# Altium integrated library Xilinx Spartan-IIE.IntLib: 136 symbols (part 22 of 25)
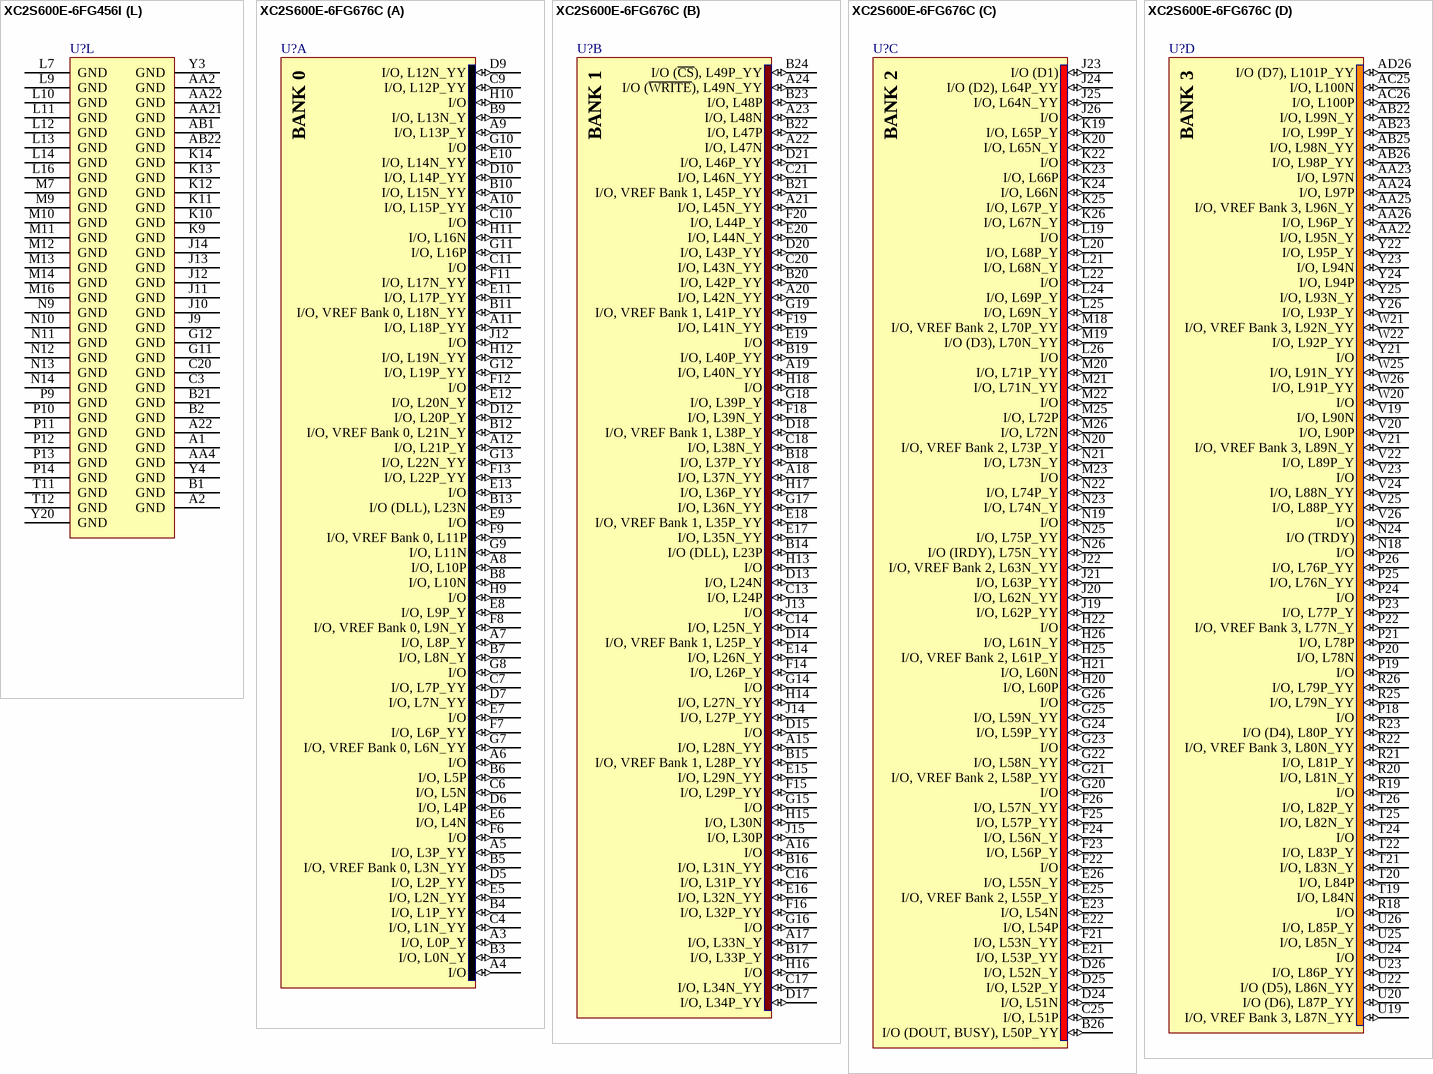
[diagram p149: symbols XC2S600E-6FG456I to XC2S600E-6FG676C]

## XC2S600E-6FG456I
designator U?
Spartan-IIE 1.8V FPGA, 329 User I/Os, 456-Ball FBGA, Standard Performance, Industrial Grade; Published: 17-Jan-2003; LatestRevisionDate: 16-Nov-2009; LatestRevisionNote: Updated to datasheet version 2.3 Jun-2008.; DatasheetVersion: ver2.3, Jun-2008; PackageVersion: ver1.2.1, Mar-2005; PackageReference: FG456; Publisher: Altium Limited; PackageDescription: 456-Ball Fine Pitch Ball Grid Array (FG456); Code_JEDEC: MO-151-AAJ-1 (Depopulated); ComponentLink1Description: Spartan-IIE Datasheet; ComponentLink1URL: http://www.xilinx.com/support/documentation/data_sheets/ds077.pdf; ComponentLink2Description: FG456 Package Drawing; ComponentLink2URL: http://www.xilinx.com/support/documentation/package_specs/fg456.pdf; ComponentLink3Description: Spartan-IIE Documents; ComponentLink3URL: http://www.xilinx.com/support/documentation/spartan-iie.htm; ComponentLink4Description: Xilinx.com Home; ComponentLink4URL: http://www.xilinx.com
footprint FG456 (BGA, 456-Leads, Body 23x23mm, Pitch 1mm)
signal-integrity model XC2S600E_FG456 (Spartan-IIE)
part A pins: A3 I/O, L0P_Y (io), A4 I/O (io), A5 I/O, L2P (io), A6 I/O, L3P_YY (io), A7 I/O (io), A8 I/O, L7P_Y (io), A9 I/O, L10P (io), A10 I/O, L12P_Y (io), B3 I/O, L0N_Y (io), B4 I/O, L1P_Y (io), B5 I/O, L2N (io), B6 I/O, VREF Bank 0, L3N_YY (io), B7 I/O (io), B8 I/O, L7N_Y (io), B9 I/O, L10N (io), B10 I/O, L12N_Y (io), B11 I/O (DLL), L13N (io), C4 I/O (io), C5 I/O, VREF Bank 0, L1N_Y (io), C6 I/O (io), C7 I/O, VREF Bank 0, L5P (io), C8 I/O, L6P_Y (io), C9 I/O, L9P (io), C10 I/O, L11P_Y (io), D5 I/O (io), D6 I/O (io), D7 I/O, L5N (io), D8 I/O, VREF Bank 0, L6N_Y (io), D9 I/O, L9N (io), D10 I/O, VREF Bank 0, L11N_Y (io), D11 I/O (io), E7 I/O, L4N (io), E8 I/O, L4P (io), E9 I/O, L8N (io), E10 I/O (io), E11 I/O (io), F9 I/O, L8P (io), F10 I/O (io), F11 I/O, VREF Bank 0 (io)
part B pins: A12 I/O (DLL), L13P (io), A13 I/O, L16N_Y (io), A14 I/O, L18N_Y (io), A15 I/O, L20N_Y (io), A16 I/O, L22N_Y (io), A17 I/O, L25N_YY (io), A18 I/O, L26N_Y (io), A19 I/O, L27N_Y (io), A20 I/O (~{WRITE}), L28N_YY (io), B12 I/O, L15N_Y (io), B13 I/O, VREF Bank 1, L16P_Y (io), B14 I/O, L18P_Y (io), B15 I/O, L20P_Y (io), B16 I/O, VREF Bank 1, L22P_Y (io), B17 I/O, L25P_YY (io), B18 I/O, VREF Bank 1, L26P_Y (io), B19 I/O, L27P_Y (io), B20 I/O (~{CS}), L28P_YY (io), C12 I/O, L15P_Y (io), C13 I/O, L17N_Y (io), C14 I/O, L19N_Y (io), C15 I/O, L21N_Y (io), C16 I/O, L23N_Y (io), C17 I/O (io), C18 I/O (io), D12 I/O, VREF Bank 1, L14P_Y (io), D13 I/O, L17P_Y (io), D14 I/O, L19P_Y (io), D15 I/O, VREF Bank 1, L21P_Y (io), D16 I/O, L23P_Y (io), D17 I/O (io), D18 I/O (io), E12 I/O, L14N_Y (io), E13 I/O (io), E14 I/O (io), E15 I/O (io), E16 I/O, VREF Bank 1, L24P_YY (io), E17 I/O, L24N_YY (io), F12 I/O (io), F13 I/O (io), F14 I/O (io)
part C pins: C21 I/O (DOUT, BUSY), L29P_YY (io), D20 I/O (io), D21 I/O, VREF Bank 2, L31P_Y (io), D22 I/O, L31N_Y (io), E19 I/O, L30P (io), E20 I/O, L30N (io), E21 I/O (io), E22 I/O, L33N_Y (io), F18 I/O (io), F19 I/O, L32P_Y (io), F20 I/O, L32N_Y (io), F21 I/O, VREF Bank 2, L33P_Y (io), F22 I/O (io), G18 I/O, L34P (io), G19 I/O, L34N (io), G20 I/O, L35P_Y (io), G21 I/O, VREF Bank 2, L35N_Y (io), G22 I/O (io), H18 I/O, VREF Bank 2, L36P_Y (io), H19 I/O (D1), L36N_Y (io), H20 I/O (D2), L37P_Y (io), H21 I/O, L37N_Y (io), H22 I/O (io), J17 I/O, L38P_Y (io), J18 I/O, L38N_Y (io), J19 I/O, L39P_Y (io), J20 I/O, L39N_Y (io), J21 I/O, L40P_Y (io), J22 I/O, L40N_Y (io), K17 I/O, L41P (io), K18 I/O, VREF Bank 2, L41N (io), K19 I/O (D3) (io), K20 I/O (io), K21 I/O, L42P (io), K22 I/O, L42N (io), L17 I/O, VREF Bank 2, L43P_Y (io), L18 I/O, L43N_Y (io), L19 I/O (io), L20 I/O, L44P_YY (io), L21 I/O (IRDY), L44N_YY (io)
part D pins: L22 I/O (TRDY) (io), M17 I/O (io), M18 I/O, VREF Bank 3, L45N_Y (io), M19 I/O, L45P_Y (io), M20 I/O, L46N (io), M21 I/O, L46P (io), M22 I/O (io), N17 I/O (D4), L47P_Y (io), N18 I/O, VREF Bank 3, L47N_Y (io), N19 I/O, L48N_YY (io), N20 I/O, L48P_YY (io), N21 I/O, L49P_Y (io), N22 I/O, L49N_Y (io), P17 I/O (io), P18 I/O, L50N (io), P19 I/O, L50P (io), P20 I/O (io), P21 I/O, L51P_YY (io), P22 I/O (D5), L51N_YY (io), R18 I/O, VREF Bank 3, L52N_Y (io), R19 I/O (D6), L52P_Y (io), R20 I/O (io), R21 I/O, VREF Bank 3, L53N_Y (io), R22 I/O, L53P_Y (io), T18 I/O, L54N (io), T19 I/O, L54P (io), T20 I/O (io), T21 I/O, VREF Bank 3, L55N_Y (io), T22 I/O, L55P_Y (io), U18 I/O, L56N_Y (io), U19 I/O, L56P_Y (io), U20 I/O (io), U21 I/O (io), U22 I/O, L57P_Y (io), V19 I/O, L58N (io), V20 I/O, L58P (io), V21 I/O (io), V22 I/O, VREF Bank 3, L57N_Y (io), W22 I/O (io), Y22 I/O (D7), L59P_YY (io)
part E pins: AA13 I/O, L73P_Y (io), AA14 I/O, L71P (io), AA15 I/O, L68N_Y (io), AA16 I/O, VREF Bank 4, L66N (io), AA17 I/O, L64N_YY (io), AA18 I/O (io), AA19 I/O, L61N (io), AA20 I/O, L60P_YY (io), AB13 I/O, L73N_Y (io), AB14 I/O, L71N (io), AB15 I/O (io), AB16 I/O (io), AB17 I/O (io), AB18 I/O (io), AB19 I/O (io), AB20 I/O, L60N_YY (io), AB21 I/O (io), U12 I/O, VREF Bank 4, L74P_Y (io), U13 I/O (io), U14 I/O, L69N (io), V12 I/O, L74N_Y (io), V13 I/O, VREF Bank 4, L72P_Y (io), V14 I/O, L69P (io), V15 I/O, VREF Bank 4, L67P_Y (io), V16 I/O, L65P (io), V17 I/O, L63P_Y (io), W12 I/O (io), W13 I/O, L72N_Y (io), W14 I/O, L70P (io), W15 I/O, L67N_Y (io), W16 I/O, L65N (io), W17 I/O, L63N_Y (io), W18 I/O, VREF Bank 4, L62P_Y (io), Y12 I/O (DLL), L75P (io), Y13 I/O (io), Y14 I/O, L70N (io), Y15 I/O, L68P_Y (io), Y16 I/O, L66P (io), Y17 I/O, VREF Bank 4, L64P_YY (io), Y18 I/O, L62N_Y (io), Y19 I/O, L61P (io)
part F pins: AA3 I/O, L89N_Y (io), AA5 I/O (io), AA6 I/O (io), AA7 I/O, L85P_YY (io), AA8 I/O, L83P_Y (io), AA9 I/O, L81P_Y (io), AA10 I/O (io), AA11 I/O (io), AB3 I/O, L89P_Y (io), AB4 I/O (io), AB5 I/O, VREF Bank 5, L87N_Y (io), AB6 I/O, L87P_Y (io), AB7 I/O, VREF Bank 5, L85N_YY (io), AB8 I/O, VREF Bank 5, L83N_Y (io), AB9 I/O, L81N_Y (io), AB10 I/O (io), AB11 I/O (DLL), L75N (io), U9 I/O, L79P_Y (io), U10 I/O, L77P_Y (io), U11 I/O (io), V6 I/O, L86N_YY (io), V7 I/O, L84N_Y (io), V8 I/O, VREF Bank 5, L82N_Y (io), V9 I/O, L79N_Y (io), V10 I/O, VREF Bank 5, L77N_Y (io), V11 I/O (io), W5 I/O, L88N_Y (io), W6 I/O, L86P_YY (io), W7 I/O, L84P_Y (io), W8 I/O, L82P_Y (io), W9 I/O, L80N_Y (io), W10 I/O, L78N_Y (io), W11 I/O, L76N (io), Y5 I/O, L88P_Y (io), Y6 I/O (io), Y7 I/O (io), Y8 I/O (io), Y9 I/O, L80P_Y (io), Y10 I/O, L78P_Y (io), Y11 I/O, VREF Bank 5, L76P (io)
part G pins: M1 I/O (TRDY) (io), M2 I/O (io), M3 I/O, L104P_Y (io), M4 I/O, VREF Bank 6, L104N_Y (io), M5 I/O, L103P (io), M6 I/O, L103N (io), N1 I/O (io), N2 I/O (io), N3 I/O, VREF Bank 6, L102P (io), N4 I/O, L102N (io), N5 I/O, L101P_Y (io), N6 I/O, L101N_Y (io), P1 I/O, L100P_Y (io), P2 I/O, L100N_Y (io), P3 I/O, L99P_Y (io), P4 I/O, L99N_Y (io), P5 I/O, L98P_YY (io), P6 I/O, L98N_YY (io), R1 I/O (io), R2 I/O, L97P_Y (io), R3 I/O, VREF Bank 6, L97N_Y (io), R4 I/O (io), R5 I/O (io), T1 I/O, L94P_Y (io), T2 I/O, VREF Bank 6, L96P_Y (io), T3 I/O, L96N_Y (io), T4 I/O, L95P (io), T5 I/O, L95N (io), U1 I/O, VREF Bank 6, L94N_Y (io), U2 I/O (io), U3 I/O, L93P_Y (io), U4 I/O, L93N_Y (io), V1 I/O (io), V2 I/O, VREF Bank 6, L92N_Y (io), V3 I/O, L91P (io), V4 I/O, L91N (io), W1 I/O, L92P_Y (io), W2 I/O (io), W3 I/O, L90N_YY (io), Y1 I/O (io), Y2 I/O, L90P_YY (io)
part H pins: C1 I/O (io), C2 I/O (io), D1 I/O, L119N (io), D2 I/O, L119P (io), D3 I/O (io), E1 I/O (io), E2 I/O, VREF Bank 7, L118P_Y (io), E3 I/O, L118N_Y (io), F1 I/O, L116N_Y (io), F2 I/O, VREF Bank 7, L116P_Y (io), F3 I/O, L117N_Y (io), F4 I/O, L117P_Y (io), F5 I/O (io), G1 I/O, L114N_Y (io), G2 I/O, VREF Bank 7, L114P_Y (io), G3 I/O, L115N (io), G4 I/O, L115P (io), G5 I/O (io), H1 I/O, L112N_YY (io), H2 I/O, L112P_YY (io), H3 I/O, VREF Bank 7, L113P_Y (io), H4 I/O, L113N_Y (io), H5 I/O (io), J1 I/O (io), J2 I/O, L110N_Y (io), J3 I/O, L110P_Y (io), J4 I/O, L111P (io), J5 I/O, L111N (io), J6 I/O (io), K1 I/O, L107P (io), K2 I/O (io), K3 I/O, VREF Bank 7, L108P_Y (io), K4 I/O, L108N_Y (io), K5 I/O, L109P_YY (io), K6 I/O, L109N_YY (io), L1 I/O, L107N (io), L2 I/O, L106N_Y (io), L3 I/O, VREF Bank 7, L106P_Y (io), L4 I/O (io), L5 I/O, L105P_YY (io), L6 I/O (IRDY), L105N_YY (io)
part I pins: A11 GCK2, I (in), AA12 GCK0, I (in), AB12 GCK1, I (in), C11 GCK3, I (in)
part J pins: A21 TDO (out), AA1 M0 (in), AB2 M2 (in), B22 CCLK (io), C19 TDI (in), C22 DIN (io) "I/O (DIN, D0), L29N_YY", E4 TMS (in), E6 TCK (in), U5 M1 (in), W20 DONE (io), W21 ~{INIT} (io) "I/O (I\N\I\T\), L59N_YY", Y21 PROGRAM (in)
part K pins: D4 VCCINT (power), D19 VCCINT (power), E5 VCCINT (power), E18 VCCINT (power), F6 VCCINT (power), F7 VCCO Bank 0 (power), F8 VCCO Bank 0 (power), F15 VCCO Bank 1 (power), F16 VCCO Bank 1 (power), F17 VCCINT (power), G6 VCCO Bank 7 (power), G7 VCCINT (power), G8 VCCINT (power), G9 VCCO Bank 0 (power), G10 VCCO Bank 0 (power), G13 VCCO Bank 1 (power), G14 VCCO Bank 1 (power), G15 VCCINT (power), G16 VCCINT (power), G17 VCCO Bank 2 (power), H6 VCCO Bank 7 (power), H7 VCCINT (power), H16 VCCINT (power), H17 VCCO Bank 2 (power), J7 VCCO Bank 7 (power), J16 VCCO Bank 2 (power), K7 VCCO Bank 7 (power), K16 VCCO Bank 2 (power), N7 VCCO Bank 6 (power), N16 VCCO Bank 3 (power), P7 VCCO Bank 6 (power), P16 VCCO Bank 3 (power), R6 VCCO Bank 6 (power), R7 VCCINT (power), R16 VCCINT (power), R17 VCCO Bank 3 (power), T6 VCCO Bank 6 (power), T7 VCCINT (power), T8 VCCINT (power), T9 VCCO Bank 5 (power), T10 VCCO Bank 5 (power), T13 VCCO Bank 4 (power), T14 VCCO Bank 4 (power), T15 VCCINT (power), T16 VCCINT (power), T17 VCCO Bank 3 (power), U6 VCCINT (power), U7 VCCO Bank 5 (power), U8 VCCO Bank 5 (power), U15 VCCO Bank 4 (power), U16 VCCO Bank 4 (power), U17 VCCINT (power), V5 VCCINT (power), V18 VCCINT (power), W4 VCCINT (power), W19 VCCINT (power)
part L pins: A1 GND (power), A2 GND (power), A22 GND (power), AA2 GND (power), AA4 GND (power), AA21 GND (power), AA22 GND (power), AB1 GND (power), AB22 GND (power), B1 GND (power), B2 GND (power), B21 GND (power), C3 GND (power), C20 GND (power), G11 GND (power), G12 GND (power), J9 GND (power), J10 GND (power), J11 GND (power), J12 GND (power), J13 GND (power), J14 GND (power), K9 GND (power), K10 GND (power), K11 GND (power), K12 GND (power), K13 GND (power), K14 GND (power), L7 GND (power), L9 GND (power), L10 GND (power), L11 GND (power), L12 GND (power), L13 GND (power), L14 GND (power), L16 GND (power), M7 GND (power), M9 GND (power), M10 GND (power), M11 GND (power), M12 GND (power), M13 GND (power), M14 GND (power), M16 GND (power), N9 GND (power), N10 GND (power), N11 GND (power), N12 GND (power), N13 GND (power), N14 GND (power), P9 GND (power), P10 GND (power), P11 GND (power), P12 GND (power), P13 GND (power), P14 GND (power), T11 GND (power), T12 GND (power), Y3 GND (power), Y4 GND (power), Y20 GND (power)
part A text: BANK 0
part B text: BANK 1
part C text: BANK 2
part D text: BANK 3
part E text: BANK 4
part F text: BANK 5
part G text: BANK 6
part H text: BANK 7

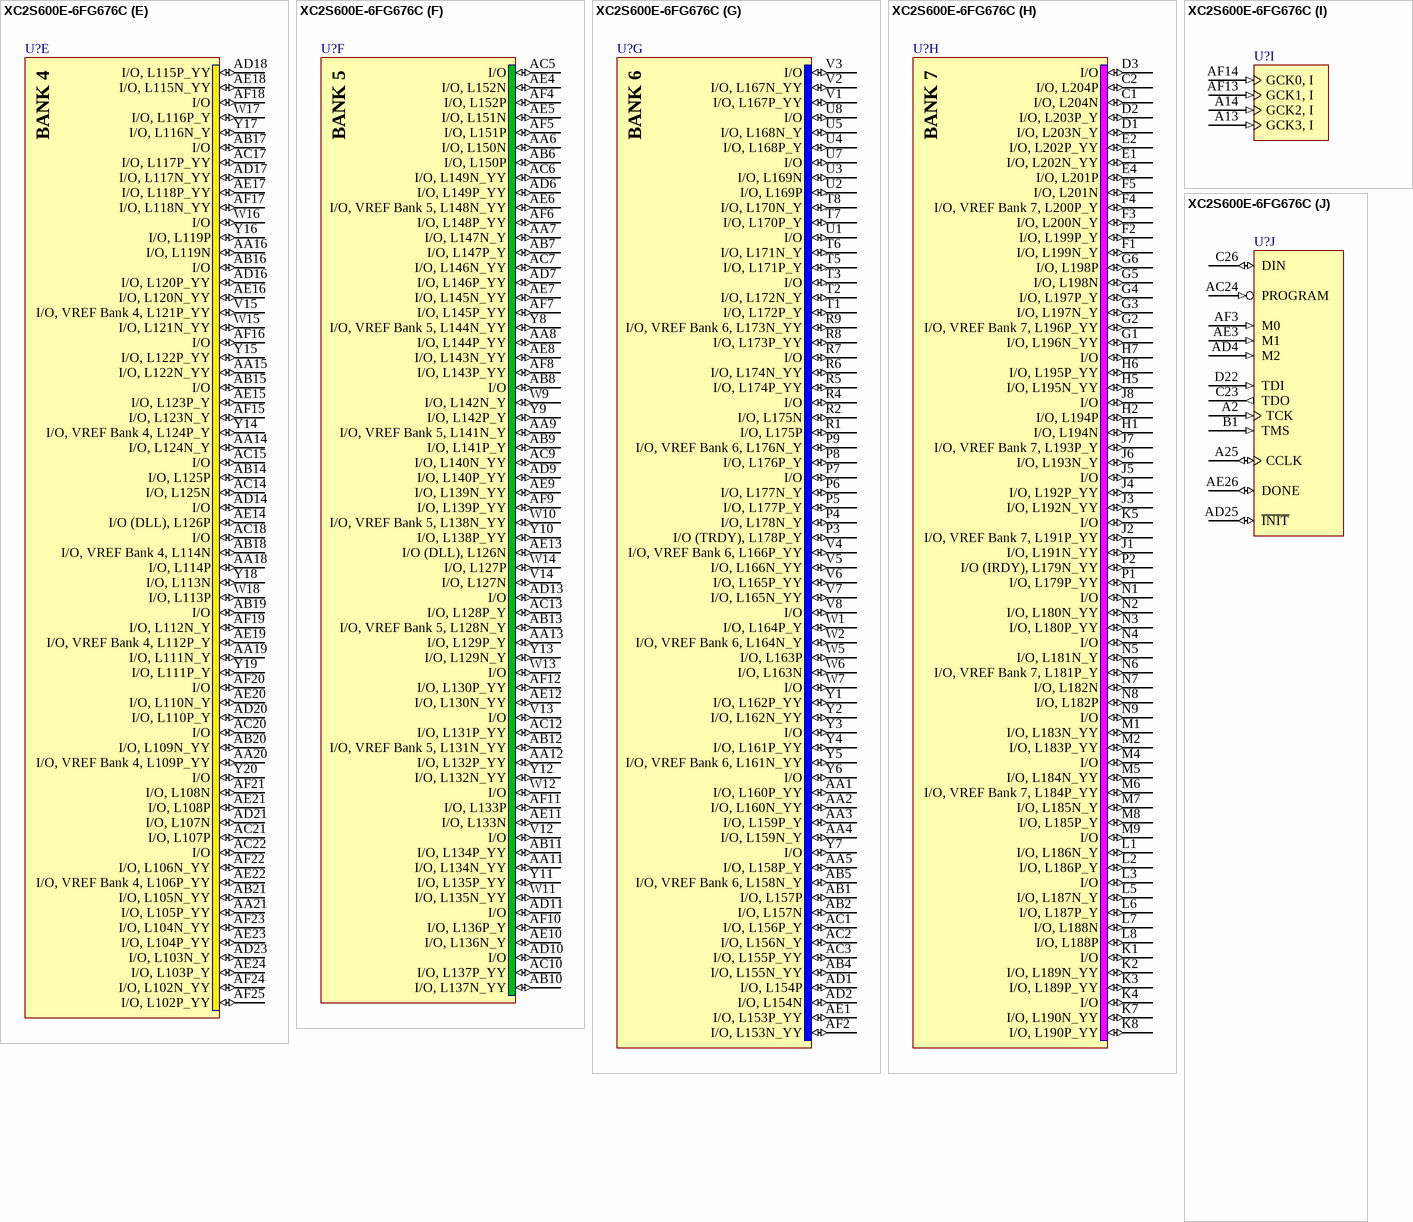
[diagram p110: symbol XC2S600E-6FG676C]

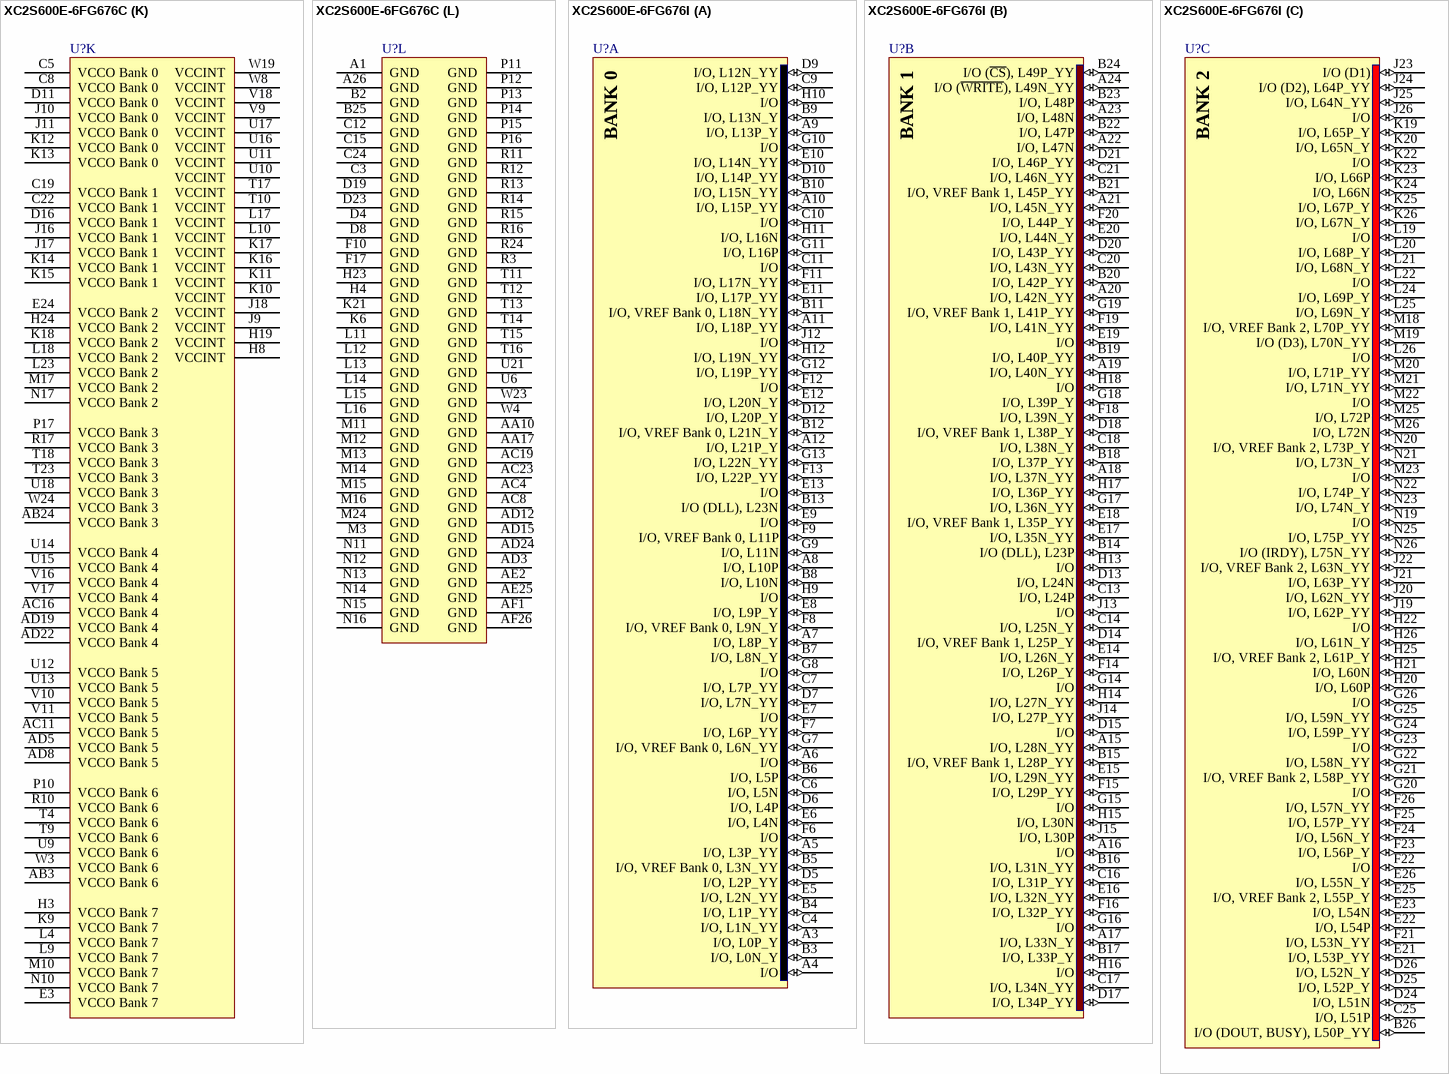
[diagram p111: symbols XC2S600E-6FG676C to XC2S600E-6FG676I]

## XC2S600E-6FG676C
designator U?
Spartan-IIE 1.8V FPGA, 514 User I/Os, 676-Ball FBGA, Standard Performance, Commercial Grade; Published: 17-Jan-2003; LatestRevisionDate: 16-Nov-2009; LatestRevisionNote: Updated to datasheet version 2.3 Jun-2008.; DatasheetVersion: ver2.3, Jun-2008; PackageVersion: ver1.2.1, Apr-2005; PackageReference: FG676; Publisher: Altium Limited; PackageDescription: 676-Ball Fine Pitch Ball Grid Array (FG676); Code_JEDEC: MS-034-AAL-1; Code_IPC: BGA100P26X26-676; ComponentLink1Description: Spartan-IIE Datasheet; ComponentLink1URL: http://www.xilinx.com/support/documentation/data_sheets/ds077.pdf; ComponentLink2Description: FG676 Package Drawing; ComponentLink2URL: http://www.xilinx.com/support/documentation/package_specs/fg676.pdf; ComponentLink3Description: Spartan-IIE Documents; ComponentLink3URL: http://www.xilinx.com/support/documentation/spartan-iie.htm; ComponentLink4Description: Xilinx.com Home; ComponentLink4URL: http://www.xilinx.com
footprint FG676 (BGA, 676-Leads, Body 27x27mm, Pitch 1mm)
signal-integrity model XC2S600E_FG676 (Spartan-IIE)
part A pins: A3 I/O, L0P_Y (io), A4 I/O (io), A5 I/O, L3P_YY (io), A6 I/O (io), A7 I/O, L8P_Y (io), A8 I/O, L10P (io), A9 I/O, L13P_Y (io), A10 I/O, L15P_YY (io), A11 I/O, L18P_YY (io), A12 I/O, L21P_Y (io), B3 I/O, L0N_Y (io), B4 I/O, L1P_YY (io), B5 I/O, VREF Bank 0, L3N_YY (io), B6 I/O, L5P (io), B7 I/O, L8N_Y (io), B8 I/O, L10N (io), B9 I/O, L13N_Y (io), B10 I/O, L15N_YY (io), B11 I/O, VREF Bank 0, L18N_YY (io), B12 I/O, VREF Bank 0, L21N_Y (io), B13 I/O (DLL), L23N (io), C4 I/O, L1N_YY (io), C6 I/O, L5N (io), C7 I/O, L7P_YY (io), C9 I/O, L12P_YY (io), C10 I/O (io), C11 I/O (io), D5 I/O, L2P_YY (io), D6 I/O, L4P (io), D7 I/O, L7N_YY (io), D9 I/O, L12N_YY (io), D10 I/O, L14P_YY (io), D12 I/O, L20P_Y (io), E5 I/O, L2N_YY (io), E6 I/O, L4N (io), E7 I/O (io), E8 I/O, L9P_Y (io), E9 I/O (io), E10 I/O, L14N_YY (io), E11 I/O, L17P_YY (io), E12 I/O, L20N_Y (io), E13 I/O (io), F6 I/O (io), F7 I/O, L6P_YY (io), F8 I/O, VREF Bank 0, L9N_Y (io), F9 I/O, VREF Bank 0, L11P (io), F11 I/O, L17N_YY (io), F12 I/O (io), F13 I/O, L22P_YY (io), G7 I/O, VREF Bank 0, L6N_YY (io), G8 I/O (io), G9 I/O, L11N (io), G10 I/O (io), G11 I/O, L16P (io), G12 I/O, L19P_YY (io), G13 I/O, L22N_YY (io), H9 I/O (io), H10 I/O (io), H11 I/O, L16N (io), H12 I/O, L19N_YY (io), J12 I/O (io)
part B pins: A15 I/O, L28N_YY (io), A16 I/O (io), A17 I/O, L33N_Y (io), A18 I/O, L37N_YY (io), A19 I/O, L40N_YY (io), A20 I/O, L42N_YY (io), A21 I/O, L45N_YY (io), A22 I/O, L47N (io), A23 I/O, L48N (io), A24 I/O (~{WRITE}), L49N_YY (io), B14 I/O (DLL), L23P (io), B15 I/O, VREF Bank 1, L28P_YY (io), B16 I/O, L31N_YY (io), B17 I/O, L33P_Y (io), B18 I/O, L37P_YY (io), B19 I/O, L40P_YY (io), B20 I/O, L42P_YY (io), B21 I/O, VREF Bank 1, L45P_YY (io), B22 I/O, L47P (io), B23 I/O, L48P (io), B24 I/O (~{CS}), L49P_YY (io), C13 I/O, L24P (io), C14 I/O, L25N_Y (io), C16 I/O, L31P_YY (io), C17 I/O, L34N_YY (io), C18 I/O, L38N_Y (io), C20 I/O, L43N_YY (io), C21 I/O, L46N_YY (io), D13 I/O, L24N (io), D14 I/O, VREF Bank 1, L25P_Y (io), D15 I/O (io), D17 I/O, L34P_YY (io), D18 I/O, VREF Bank 1, L38P_Y (io), D20 I/O, L43P_YY (io), D21 I/O, L46P_YY (io), E14 I/O, L26N_Y (io), E15 I/O, L29N_YY (io), E16 I/O, L32N_YY (io), E17 I/O, L35N_YY (io), E18 I/O, VREF Bank 1, L35P_YY (io), E19 I/O (io), E20 I/O, L44N_Y (io), F14 I/O, L26P_Y (io), F15 I/O, L29P_YY (io), F16 I/O, L32P_YY (io), F18 I/O, L39N_Y (io), F19 I/O, L41N_YY (io), F20 I/O, L44P_Y (io), G14 I/O (io), G15 I/O (io), G16 I/O (io), G17 I/O, L36N_YY (io), G18 I/O, L39P_Y (io), G19 I/O, VREF Bank 1, L41P_YY (io), H13 I/O (io), H14 I/O, L27N_YY (io), H15 I/O, L30N (io), H16 I/O (io), H17 I/O, L36P_YY (io), H18 I/O (io), J13 I/O (io), J14 I/O, L27P_YY (io), J15 I/O, L30P (io)
part C pins: B26 I/O (DOUT, BUSY), L50P_YY (io), C25 I/O, L51P (io), D24 I/O, L51N (io), D25 I/O, L52P_Y (io), D26 I/O, L52N_Y (io), E21 I/O, L53P_YY (io), E22 I/O, L54P (io), E23 I/O, L54N (io), E25 I/O, VREF Bank 2, L55P_Y (io), E26 I/O, L55N_Y (io), F21 I/O, L53N_YY (io), F22 I/O (io), F23 I/O, L56P_Y (io), F24 I/O, L56N_Y (io), F25 I/O, L57P_YY (io), F26 I/O, L57N_YY (io), G20 I/O (io), G21 I/O, VREF Bank 2, L58P_YY (io), G22 I/O, L58N_YY (io), G23 I/O (io), G24 I/O, L59P_YY (io), G25 I/O, L59N_YY (io), G26 I/O (io), H20 I/O, L60P (io), H21 I/O, L60N (io), H22 I/O (io), H25 I/O, VREF Bank 2, L61P_Y (io), H26 I/O, L61N_Y (io), J19 I/O, L62P_YY (io), J20 I/O, L62N_YY (io), J21 I/O, L63P_YY (io), J22 I/O, VREF Bank 2, L63N_YY (io), J23 I/O (D1) (io), J24 I/O (D2), L64P_YY (io), J25 I/O, L64N_YY (io), J26 I/O (io), K19 I/O, L65P_Y (io), K20 I/O, L65N_Y (io), K22 I/O (io), K23 I/O, L66P (io), K24 I/O, L66N (io), K25 I/O, L67P_Y (io), K26 I/O, L67N_Y (io), L19 I/O (io), L20 I/O, L68P_Y (io), L21 I/O, L68N_Y (io), L22 I/O (io), L24 I/O, L69P_Y (io), L25 I/O, L69N_Y (io), L26 I/O (io), M18 I/O, VREF Bank 2, L70P_YY (io), M19 I/O (D3), L70N_YY (io), M20 I/O, L71P_YY (io), M21 I/O, L71N_YY (io), M22 I/O (io), M23 I/O (io), M25 I/O, L72P (io), M26 I/O, L72N (io), N19 I/O (io), N20 I/O, VREF Bank 2, L73P_Y (io), N21 I/O, L73N_Y (io), N22 I/O, L74P_Y (io), N23 I/O, L74N_Y (io), N25 I/O, L75P_YY (io), N26 I/O (IRDY), L75N_YY (io)
part D pins: AA22 I/O, L95N_Y (io), AA23 I/O, L97N (io), AA24 I/O, L97P (io), AA25 I/O, VREF Bank 3, L96N_Y (io), AA26 I/O, L96P_Y (io), AB22 I/O, L99N_Y (io), AB23 I/O, L99P_Y (io), AB25 I/O, L98N_YY (io), AB26 I/O, L98P_YY (io), AC25 I/O, L100N (io), AC26 I/O, L100P (io), AD26 I/O (D7), L101P_YY (io), N18 I/O (io), N24 I/O (TRDY) (io), P18 I/O (io), P19 I/O (io), P20 I/O, L78N (io), P21 I/O, L78P (io), P22 I/O, VREF Bank 3, L77N_Y (io), P23 I/O, L77P_Y (io), P24 I/O (io), P25 I/O, L76N_YY (io), P26 I/O, L76P_YY (io), R18 I/O (io), R19 I/O (io), R20 I/O, L81N_Y (io), R21 I/O, L81P_Y (io), R22 I/O, VREF Bank 3, L80N_YY (io), R23 I/O (D4), L80P_YY (io), R25 I/O, L79N_YY (io), R26 I/O, L79P_YY (io), T19 I/O, L84N (io), T20 I/O, L84P (io), T21 I/O, L83N_Y (io), T22 I/O, L83P_Y (io), T24 I/O (io), T25 I/O, L82N_Y (io), T26 I/O, L82P_Y (io), U19 I/O, VREF Bank 3, L87N_YY (io), U20 I/O (D6), L87P_YY (io), U22 I/O (D5), L86N_YY (io), U23 I/O, L86P_YY (io), U24 I/O (io), U25 I/O, L85N_Y (io), U26 I/O, L85P_Y (io), V19 I/O, L90N (io), V20 I/O, L90P (io), V21 I/O, VREF Bank 3, L89N_Y (io), V22 I/O, L89P_Y (io), V23 I/O (io), V24 I/O, L88N_YY (io), V25 I/O, L88P_YY (io), V26 I/O (io), W20 I/O (io), W21 I/O, VREF Bank 3, L92N_YY (io), W22 I/O, L92P_YY (io), W25 I/O, L91N_YY (io), W26 I/O, L91P_YY (io), Y21 I/O (io), Y22 I/O, L95P_Y (io), Y23 I/O, L94N (io), Y24 I/O, L94P (io), Y25 I/O, L93N_Y (io), Y26 I/O, L93P_Y (io)
part E pins: AA14 I/O, L124N_Y (io), AA15 I/O, L122N_YY (io), AA16 I/O, L119N (io), AA18 I/O, L114P (io), AA19 I/O, L111N_Y (io), AA20 I/O, VREF Bank 4, L109P_YY (io), AA21 I/O, L105P_YY (io), AB14 I/O, L125P (io), AB15 I/O (io), AB16 I/O (io), AB17 I/O (io), AB18 I/O, VREF Bank 4, L114N (io), AB19 I/O (io), AB20 I/O, L109N_YY (io), AB21 I/O, L105N_YY (io), AC14 I/O, L125N (io), AC15 I/O (io), AC17 I/O, L117P_YY (io), AC18 I/O (io), AC20 I/O (io), AC21 I/O, L107P (io), AC22 I/O (io), AD14 I/O (io), AD16 I/O, L120P_YY (io), AD17 I/O, L117N_YY (io), AD18 I/O, L115P_YY (io), AD20 I/O, L110P_Y (io), AD21 I/O, L107N (io), AD23 I/O, L103N_Y (io), AE14 I/O (DLL), L126P (io), AE15 I/O, L123P_Y (io), AE16 I/O, L120N_YY (io), AE17 I/O, L118P_YY (io), AE18 I/O, L115N_YY (io), AE19 I/O, VREF Bank 4, L112P_Y (io), AE20 I/O, L110N_Y (io), AE21 I/O, L108P (io), AE22 I/O, VREF Bank 4, L106P_YY (io), AE23 I/O, L104P_YY (io), AE24 I/O, L103P_Y (io), AF15 I/O, L123N_Y (io), AF16 I/O (io), AF17 I/O, L118N_YY (io), AF18 I/O (io), AF19 I/O, L112N_Y (io), AF20 I/O (io), AF21 I/O, L108N (io), AF22 I/O, L106N_YY (io), AF23 I/O, L104N_YY (io), AF24 I/O, L102N_YY (io), AF25 I/O, L102P_YY (io), V15 I/O, VREF Bank 4, L121P_YY (io), W15 I/O, L121N_YY (io), W16 I/O (io), W17 I/O, L116P_Y (io), W18 I/O, L113P (io), Y14 I/O, VREF Bank 4, L124P_Y (io), Y15 I/O, L122P_YY (io), Y16 I/O, L119P (io), Y17 I/O, L116N_Y (io), Y18 I/O, L113N (io), Y19 I/O, L111P_Y (io), Y20 I/O (io)
part F pins: AA6 I/O, L150N (io), AA7 I/O, L147N_Y (io), AA8 I/O, L144P_YY (io), AA9 I/O, VREF Bank 5, L141N_Y (io), AA11 I/O, L134N_YY (io), AA12 I/O, L132P_YY (io), AA13 I/O, L129P_Y (io), AB6 I/O, L150P (io), AB7 I/O, L147P_Y (io), AB8 I/O (io), AB9 I/O, L141P_Y (io), AB10 I/O, L137N_YY (io), AB11 I/O, L134P_YY (io), AB12 I/O, VREF Bank 5, L131N_YY (io), AB13 I/O, VREF Bank 5, L128N_Y (io), AC5 I/O (io), AC6 I/O, L149N_YY (io), AC7 I/O, L146N_YY (io), AC9 I/O, L140N_YY (io), AC10 I/O, L137P_YY (io), AC12 I/O, L131P_YY (io), AC13 I/O, L128P_Y (io), AD6 I/O, L149P_YY (io), AD7 I/O, L146P_YY (io), AD9 I/O, L140P_YY (io), AD10 I/O (io), AD11 I/O (io), AD13 I/O (io), AE4 I/O, L152N (io), AE5 I/O, L151N (io), AE6 I/O, VREF Bank 5, L148N_YY (io), AE7 I/O, L145N_YY (io), AE8 I/O, L143N_YY (io), AE9 I/O, L139N_YY (io), AE10 I/O, L136N_Y (io), AE11 I/O, L133N (io), AE12 I/O, L130N_YY (io), AE13 I/O (DLL), L126N (io), AF4 I/O, L152P (io), AF5 I/O, L151P (io), AF6 I/O, L148P_YY (io), AF7 I/O, L145P_YY (io), AF8 I/O, L143P_YY (io), AF9 I/O, L139P_YY (io), AF10 I/O, L136P_Y (io), AF11 I/O, L133P (io), AF12 I/O, L130P_YY (io), V12 I/O (io), V13 I/O (io), V14 I/O, L127N (io), W9 I/O, L142N_Y (io), W10 I/O, VREF Bank 5, L138N_YY (io), W11 I/O, L135N_YY (io), W12 I/O (io), W13 I/O (io), W14 I/O, L127P (io), Y8 I/O, VREF Bank 5, L144N_YY (io), Y9 I/O, L142P_Y (io), Y10 I/O, L138P_YY (io), Y11 I/O, L135P_YY (io), Y12 I/O, L132N_YY (io), Y13 I/O, L129N_Y (io)
part G pins: AA1 I/O, L160P_YY (io), AA2 I/O, L160N_YY (io), AA3 I/O, L159P_Y (io), AA4 I/O, L159N_Y (io), AA5 I/O, L158P_Y (io), AB1 I/O, L157P (io), AB2 I/O, L157N (io), AB4 I/O, L155N_YY (io), AB5 I/O, VREF Bank 6, L158N_Y (io), AC1 I/O, L156P_Y (io), AC2 I/O, L156N_Y (io), AC3 I/O, L155P_YY (io), AD1 I/O, L154P (io), AD2 I/O, L154N (io), AE1 I/O, L153P_YY (io), AF2 I/O, L153N_YY (io), P3 I/O (TRDY), L178P_Y (io), P4 I/O, L178N_Y (io), P5 I/O, L177P_Y (io), P6 I/O, L177N_Y (io), P7 I/O (io), P8 I/O, L176P_Y (io), P9 I/O, VREF Bank 6, L176N_Y (io), R1 I/O, L175P (io), R2 I/O, L175N (io), R4 I/O (io), R5 I/O, L174P_YY (io), R6 I/O, L174N_YY (io), R7 I/O (io), R8 I/O, L173P_YY (io), R9 I/O, VREF Bank 6, L173N_YY (io), T1 I/O, L172P_Y (io), T2 I/O, L172N_Y (io), T3 I/O (io), T5 I/O, L171P_Y (io), T6 I/O, L171N_Y (io), T7 I/O, L170P_Y (io), T8 I/O, L170N_Y (io), U1 I/O (io), U2 I/O, L169P (io), U3 I/O, L169N (io), U4 I/O, L168P_Y (io), U5 I/O, L168N_Y (io), U7 I/O (io), U8 I/O (io), V1 I/O, L167P_YY (io), V2 I/O, L167N_YY (io), V3 I/O (io), V4 I/O, VREF Bank 6, L166P_YY (io), V5 I/O, L166N_YY (io), V6 I/O, L165P_YY (io), V7 I/O, L165N_YY (io), V8 I/O (io), W1 I/O, L164P_Y (io), W2 I/O, VREF Bank 6, L164N_Y (io), W5 I/O, L163P (io), W6 I/O, L163N (io), W7 I/O (io), Y1 I/O, L162P_YY (io), Y2 I/O, L162N_YY (io), Y3 I/O (io), Y4 I/O, L161P_YY (io), Y5 I/O, VREF Bank 6, L161N_YY (io), Y6 I/O (io), Y7 I/O (io)
part H pins: C1 I/O, L204N (io), C2 I/O, L204P (io), D1 I/O, L203N_Y (io), D2 I/O, L203P_Y (io), D3 I/O (io), E1 I/O, L202N_YY (io), E2 I/O, L202P_YY (io), E4 I/O, L201P (io), F1 I/O, L199N_Y (io), F2 I/O, L199P_Y (io), F3 I/O, L200N_Y (io), F4 I/O, VREF Bank 7, L200P_Y (io), F5 I/O, L201N (io), G1 I/O, L196N_YY (io), G2 I/O, VREF Bank 7, L196P_YY (io), G3 I/O, L197N_Y (io), G4 I/O, L197P_Y (io), G5 I/O, L198N (io), G6 I/O, L198P (io), H1 I/O, L194N (io), H2 I/O, L194P (io), H5 I/O, L195N_YY (io), H6 I/O, L195P_YY (io), H7 I/O (io), J1 I/O, L191N_YY (io), J2 I/O, VREF Bank 7, L191P_YY (io), J3 I/O, L192N_YY (io), J4 I/O, L192P_YY (io), J5 I/O (io), J6 I/O, L193N_Y (io), J7 I/O, VREF Bank 7, L193P_Y (io), J8 I/O (io), K1 I/O (io), K2 I/O, L189N_YY (io), K3 I/O, L189P_YY (io), K4 I/O (io), K5 I/O (io), K7 I/O, L190N_YY (io), K8 I/O, L190P_YY (io), L1 I/O, L186N_Y (io), L2 I/O, L186P_Y (io), L3 I/O (io), L5 I/O, L187N_Y (io), L6 I/O, L187P_Y (io), L7 I/O, L188N (io), L8 I/O, L188P (io), M1 I/O, L183N_YY (io), M2 I/O, L183P_YY (io), M4 I/O (io), M5 I/O, L184N_YY (io), M6 I/O, VREF Bank 7, L184P_YY (io), M7 I/O, L185N_Y (io), M8 I/O, L185P_Y (io), M9 I/O (io), N1 I/O (io), N2 I/O, L180N_YY (io), N3 I/O, L180P_YY (io), N4 I/O (io), N5 I/O, L181N_Y (io), N6 I/O, VREF Bank 7, L181P_Y (io), N7 I/O, L182N (io), N8 I/O, L182P (io), N9 I/O (io), P1 I/O, L179P_YY (io), P2 I/O (IRDY), L179N_YY (io)
part I pins: A13 GCK3, I (in), A14 GCK2, I (in), AF13 GCK1, I (in), AF14 GCK0, I (in)
part J pins: A2 TCK (in), A25 CCLK (io), AC24 PROGRAM (in), AD4 M2 (in), AD25 ~{INIT} (io) "I/O (I\N\I\T\), L101N_YY", AE3 M1 (in), AE26 DONE (io), AF3 M0 (in), B1 TMS (in), C23 TDO (out), C26 DIN (io) "I/O (DIN, D0), L50N_YY", D22 TDI (in)
part K pins: AB3 VCCO Bank 6 (power), AB24 VCCO Bank 3 (power), AC11 VCCO Bank 5 (power), AC16 VCCO Bank 4 (power), AD5 VCCO Bank 5 (power), AD8 VCCO Bank 5 (power), AD19 VCCO Bank 4 (power), AD22 VCCO Bank 4 (power), C5 VCCO Bank 0 (power), C8 VCCO Bank 0 (power), C19 VCCO Bank 1 (power), C22 VCCO Bank 1 (power), D11 VCCO Bank 0 (power), D16 VCCO Bank 1 (power), E3 VCCO Bank 7 (power), E24 VCCO Bank 2 (power), H3 VCCO Bank 7 (power), H8 VCCINT (power), H19 VCCINT (power), H24 VCCO Bank 2 (power), J9 VCCINT (power), J10 VCCO Bank 0 (power), J11 VCCO Bank 0 (power), J16 VCCO Bank 1 (power), J17 VCCO Bank 1 (power), J18 VCCINT (power), K9 VCCO Bank 7 (power), K10 VCCINT (power), K11 VCCINT (power), K12 VCCO Bank 0 (power), K13 VCCO Bank 0 (power), K14 VCCO Bank 1 (power), K15 VCCO Bank 1 (power), K16 VCCINT (power), K17 VCCINT (power), K18 VCCO Bank 2 (power), L4 VCCO Bank 7 (power), L9 VCCO Bank 7 (power), L10 VCCINT (power), L17 VCCINT (power), L18 VCCO Bank 2 (power), L23 VCCO Bank 2 (power), M10 VCCO Bank 7 (power), M17 VCCO Bank 2 (power), N10 VCCO Bank 7 (power), N17 VCCO Bank 2 (power), P10 VCCO Bank 6 (power), P17 VCCO Bank 3 (power), R10 VCCO Bank 6 (power), R17 VCCO Bank 3 (power), T4 VCCO Bank 6 (power), T9 VCCO Bank 6 (power), T10 VCCINT (power), T17 VCCINT (power), T18 VCCO Bank 3 (power), T23 VCCO Bank 3 (power), U9 VCCO Bank 6 (power), U10 VCCINT (power), U11 VCCINT (power), U12 VCCO Bank 5 (power), U13 VCCO Bank 5 (power), U14 VCCO Bank 4 (power), U15 VCCO Bank 4 (power), U16 VCCINT (power), U17 VCCINT (power), U18 VCCO Bank 3 (power), V9 VCCINT (power), V10 VCCO Bank 5 (power), V11 VCCO Bank 5 (power), V16 VCCO Bank 4 (power), V17 VCCO Bank 4 (power), V18 VCCINT (power), W3 VCCO Bank 6 (power), W8 VCCINT (power), W19 VCCINT (power), W24 VCCO Bank 3 (power)
part L pins: A1 GND (power), A26 GND (power), AA10 GND (power), AA17 GND (power), AC4 GND (power), AC8 GND (power), AC19 GND (power), AC23 GND (power), AD3 GND (power), AD12 GND (power), AD15 GND (power), AD24 GND (power), AE2 GND (power), AE25 GND (power), AF1 GND (power), AF26 GND (power), B2 GND (power), B25 GND (power), C3 GND (power), C12 GND (power), C15 GND (power), C24 GND (power), D4 GND (power), D8 GND (power), D19 GND (power), D23 GND (power), F10 GND (power), F17 GND (power), H4 GND (power), H23 GND (power), K6 GND (power), K21 GND (power), L11 GND (power), L12 GND (power), L13 GND (power), L14 GND (power), L15 GND (power), L16 GND (power), M3 GND (power), M11 GND (power), M12 GND (power), M13 GND (power), M14 GND (power), M15 GND (power), M16 GND (power), M24 GND (power), N11 GND (power), N12 GND (power), N13 GND (power), N14 GND (power), N15 GND (power), N16 GND (power), P11 GND (power), P12 GND (power), P13 GND (power), P14 GND (power), P15 GND (power), P16 GND (power), R3 GND (power), R11 GND (power), R12 GND (power), R13 GND (power), R14 GND (power), R15 GND (power), R16 GND (power), R24 GND (power), T11 GND (power), T12 GND (power), T13 GND (power), T14 GND (power), T15 GND (power), T16 GND (power), U6 GND (power), U21 GND (power), W4 GND (power), W23 GND (power)
part A text: BANK 0
part B text: BANK 1
part C text: BANK 2
part D text: BANK 3
part E text: BANK 4
part F text: BANK 5
part G text: BANK 6
part H text: BANK 7

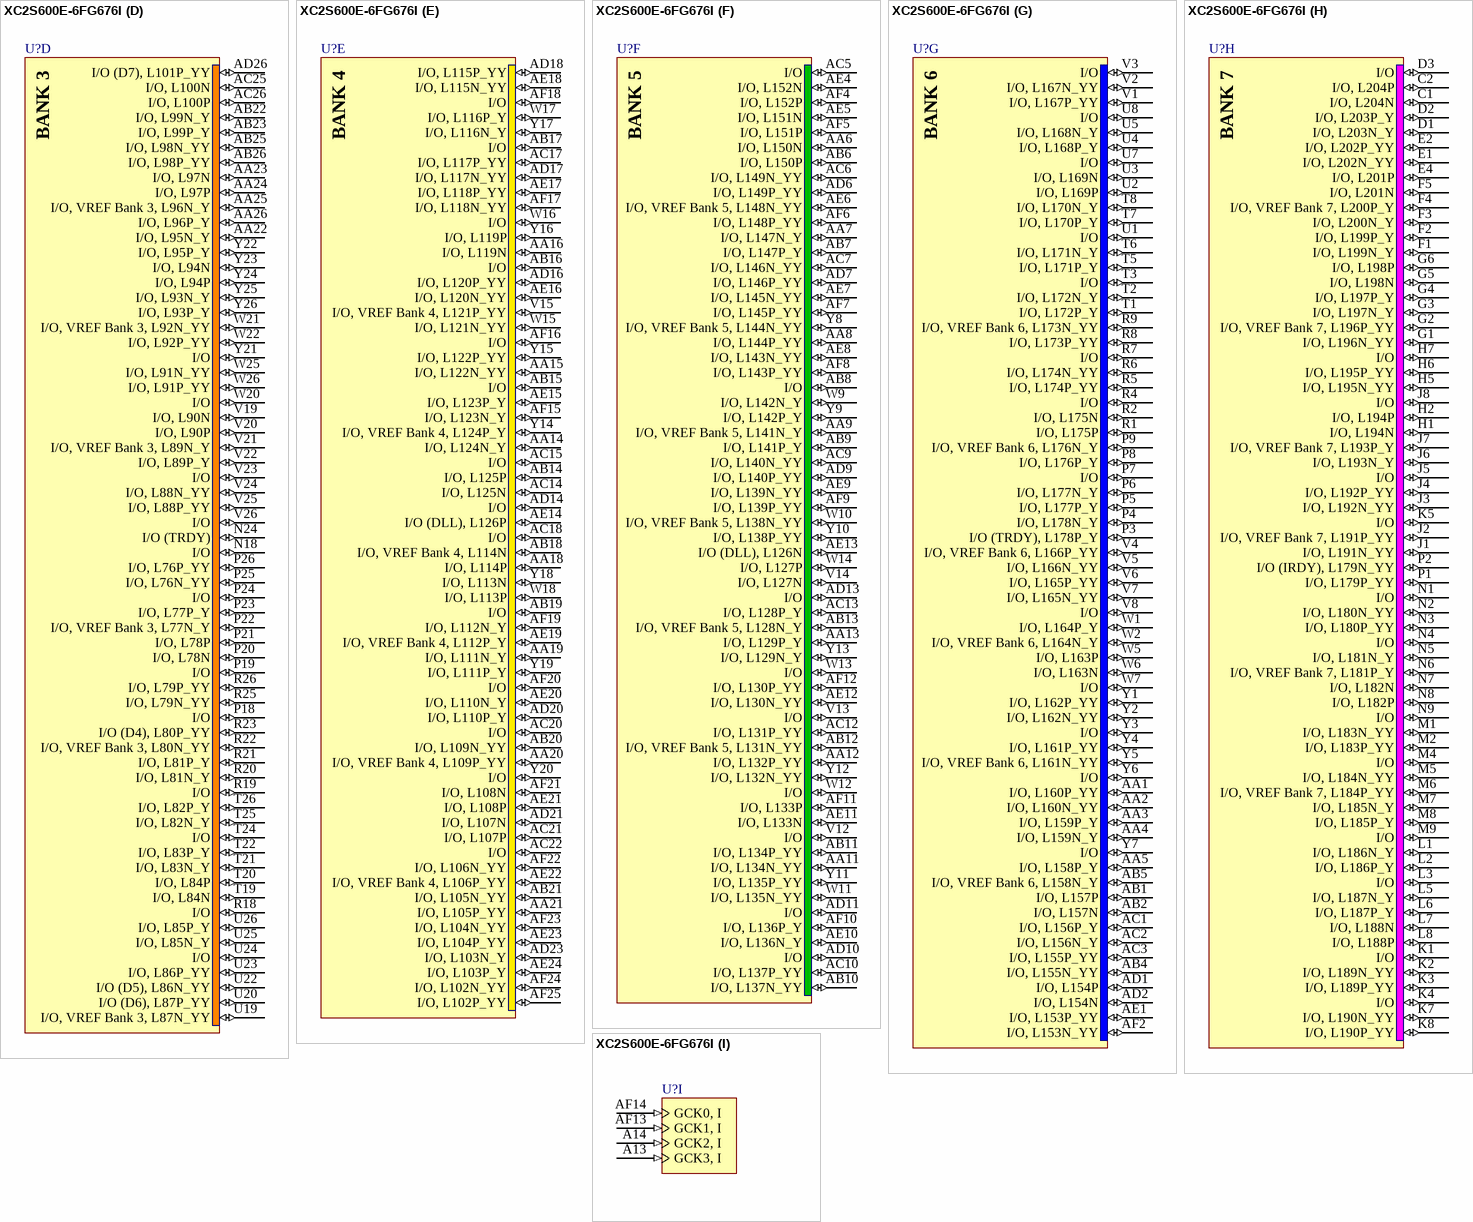
[diagram p112: symbol XC2S600E-6FG676I]

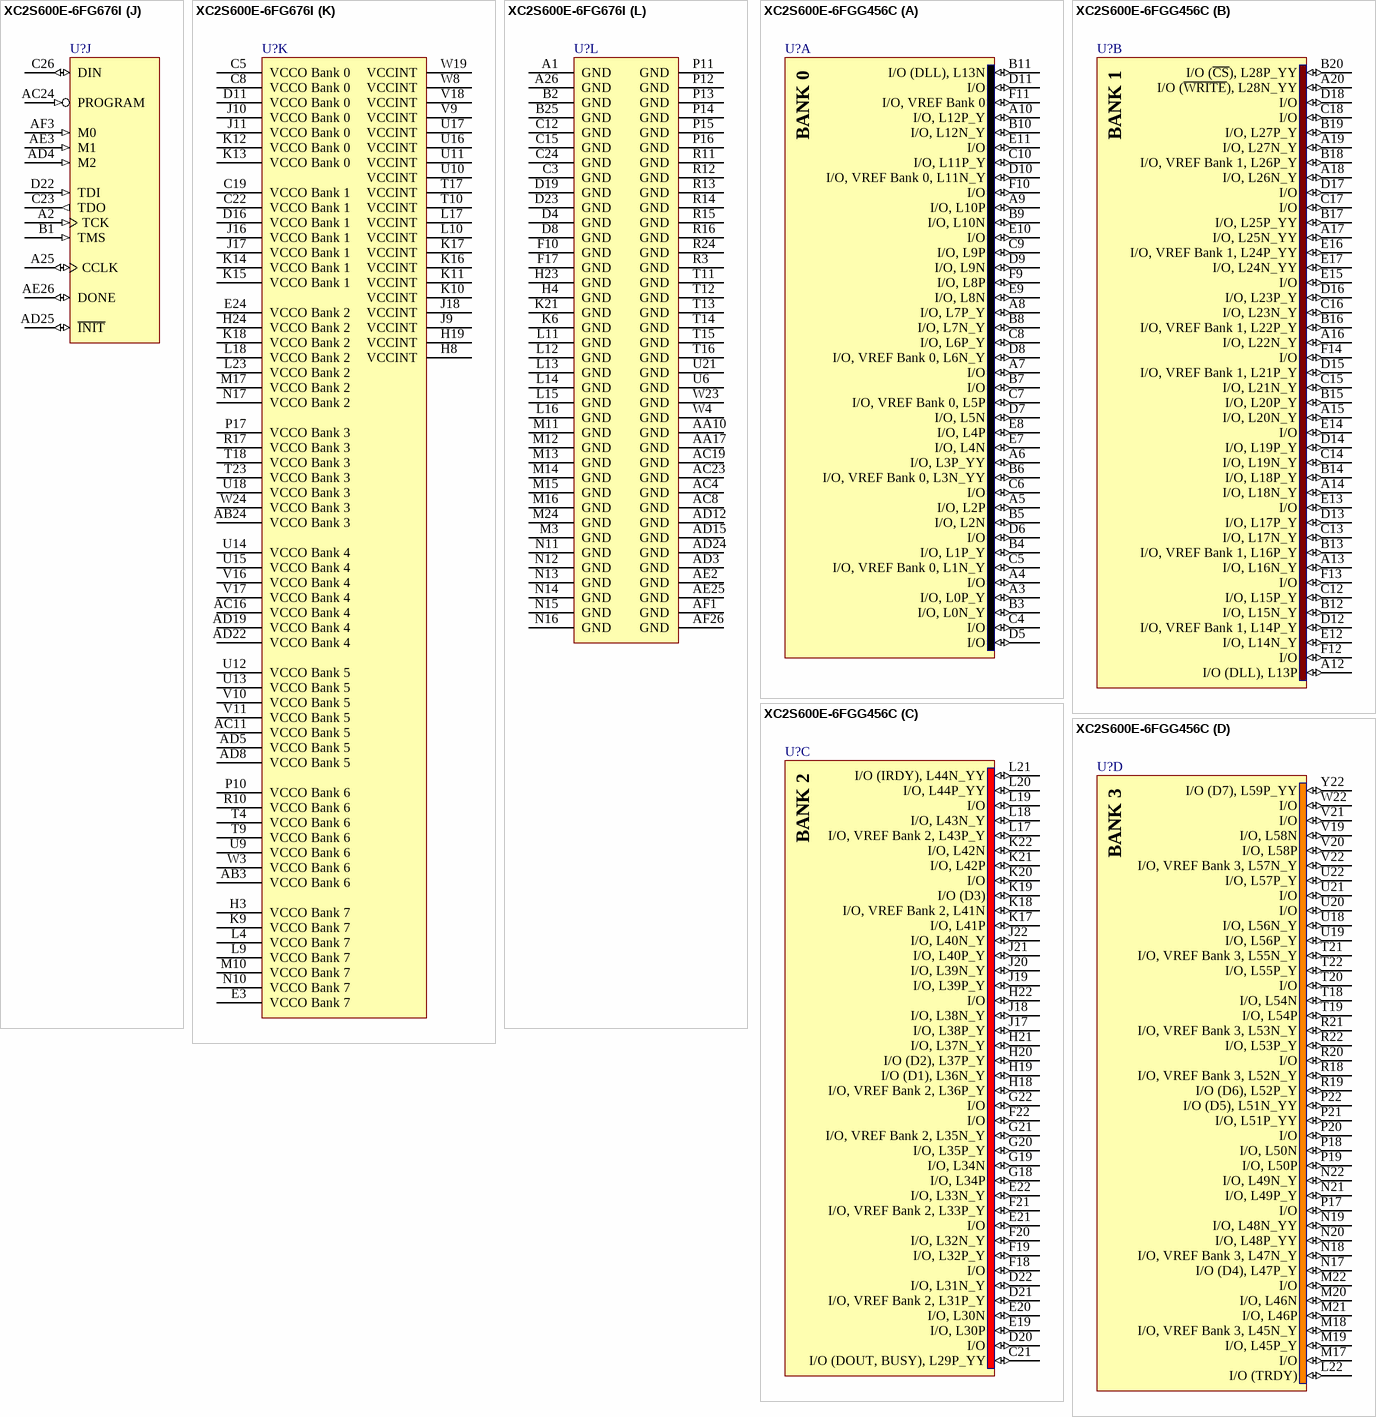
[diagram p113: symbols XC2S600E-6FG676I to XC2S600E-6FGG456C]

## XC2S600E-6FG676I
designator U?
Spartan-IIE 1.8V FPGA, 514 User I/Os, 676-Ball FBGA, Standard Performance, Industrial Grade; Published: 17-Jan-2003; LatestRevisionDate: 16-Nov-2009; LatestRevisionNote: Updated to datasheet version 2.3 Jun-2008.; DatasheetVersion: ver2.3, Jun-2008; PackageVersion: ver1.2.1, Apr-2005; PackageReference: FG676; Publisher: Altium Limited; PackageDescription: 676-Ball Fine Pitch Ball Grid Array (FG676); Code_JEDEC: MS-034-AAL-1; Code_IPC: BGA100P26X26-676; ComponentLink1Description: Spartan-IIE Datasheet; ComponentLink1URL: http://www.xilinx.com/support/documentation/data_sheets/ds077.pdf; ComponentLink2Description: FG676 Package Drawing; ComponentLink2URL: http://www.xilinx.com/support/documentation/package_specs/fg676.pdf; ComponentLink3Description: Spartan-IIE Documents; ComponentLink3URL: http://www.xilinx.com/support/documentation/spartan-iie.htm; ComponentLink4Description: Xilinx.com Home; ComponentLink4URL: http://www.xilinx.com
footprint FG676 (BGA, 676-Leads, Body 27x27mm, Pitch 1mm)
signal-integrity model XC2S600E_FG676 (Spartan-IIE)
part A pins: A3 I/O, L0P_Y (io), A4 I/O (io), A5 I/O, L3P_YY (io), A6 I/O (io), A7 I/O, L8P_Y (io), A8 I/O, L10P (io), A9 I/O, L13P_Y (io), A10 I/O, L15P_YY (io), A11 I/O, L18P_YY (io), A12 I/O, L21P_Y (io), B3 I/O, L0N_Y (io), B4 I/O, L1P_YY (io), B5 I/O, VREF Bank 0, L3N_YY (io), B6 I/O, L5P (io), B7 I/O, L8N_Y (io), B8 I/O, L10N (io), B9 I/O, L13N_Y (io), B10 I/O, L15N_YY (io), B11 I/O, VREF Bank 0, L18N_YY (io), B12 I/O, VREF Bank 0, L21N_Y (io), B13 I/O (DLL), L23N (io), C4 I/O, L1N_YY (io), C6 I/O, L5N (io), C7 I/O, L7P_YY (io), C9 I/O, L12P_YY (io), C10 I/O (io), C11 I/O (io), D5 I/O, L2P_YY (io), D6 I/O, L4P (io), D7 I/O, L7N_YY (io), D9 I/O, L12N_YY (io), D10 I/O, L14P_YY (io), D12 I/O, L20P_Y (io), E5 I/O, L2N_YY (io), E6 I/O, L4N (io), E7 I/O (io), E8 I/O, L9P_Y (io), E9 I/O (io), E10 I/O, L14N_YY (io), E11 I/O, L17P_YY (io), E12 I/O, L20N_Y (io), E13 I/O (io), F6 I/O (io), F7 I/O, L6P_YY (io), F8 I/O, VREF Bank 0, L9N_Y (io), F9 I/O, VREF Bank 0, L11P (io), F11 I/O, L17N_YY (io), F12 I/O (io), F13 I/O, L22P_YY (io), G7 I/O, VREF Bank 0, L6N_YY (io), G8 I/O (io), G9 I/O, L11N (io), G10 I/O (io), G11 I/O, L16P (io), G12 I/O, L19P_YY (io), G13 I/O, L22N_YY (io), H9 I/O (io), H10 I/O (io), H11 I/O, L16N (io), H12 I/O, L19N_YY (io), J12 I/O (io)
part B pins: A15 I/O, L28N_YY (io), A16 I/O (io), A17 I/O, L33N_Y (io), A18 I/O, L37N_YY (io), A19 I/O, L40N_YY (io), A20 I/O, L42N_YY (io), A21 I/O, L45N_YY (io), A22 I/O, L47N (io), A23 I/O, L48N (io), A24 I/O (~{WRITE}), L49N_YY (io), B14 I/O (DLL), L23P (io), B15 I/O, VREF Bank 1, L28P_YY (io), B16 I/O, L31N_YY (io), B17 I/O, L33P_Y (io), B18 I/O, L37P_YY (io), B19 I/O, L40P_YY (io), B20 I/O, L42P_YY (io), B21 I/O, VREF Bank 1, L45P_YY (io), B22 I/O, L47P (io), B23 I/O, L48P (io), B24 I/O (~{CS}), L49P_YY (io), C13 I/O, L24P (io), C14 I/O, L25N_Y (io), C16 I/O, L31P_YY (io), C17 I/O, L34N_YY (io), C18 I/O, L38N_Y (io), C20 I/O, L43N_YY (io), C21 I/O, L46N_YY (io), D13 I/O, L24N (io), D14 I/O, VREF Bank 1, L25P_Y (io), D15 I/O (io), D17 I/O, L34P_YY (io), D18 I/O, VREF Bank 1, L38P_Y (io), D20 I/O, L43P_YY (io), D21 I/O, L46P_YY (io), E14 I/O, L26N_Y (io), E15 I/O, L29N_YY (io), E16 I/O, L32N_YY (io), E17 I/O, L35N_YY (io), E18 I/O, VREF Bank 1, L35P_YY (io), E19 I/O (io), E20 I/O, L44N_Y (io), F14 I/O, L26P_Y (io), F15 I/O, L29P_YY (io), F16 I/O, L32P_YY (io), F18 I/O, L39N_Y (io), F19 I/O, L41N_YY (io), F20 I/O, L44P_Y (io), G14 I/O (io), G15 I/O (io), G16 I/O (io), G17 I/O, L36N_YY (io), G18 I/O, L39P_Y (io), G19 I/O, VREF Bank 1, L41P_YY (io), H13 I/O (io), H14 I/O, L27N_YY (io), H15 I/O, L30N (io), H16 I/O (io), H17 I/O, L36P_YY (io), H18 I/O (io), J13 I/O (io), J14 I/O, L27P_YY (io), J15 I/O, L30P (io)
part C pins: B26 I/O (DOUT, BUSY), L50P_YY (io), C25 I/O, L51P (io), D24 I/O, L51N (io), D25 I/O, L52P_Y (io), D26 I/O, L52N_Y (io), E21 I/O, L53P_YY (io), E22 I/O, L54P (io), E23 I/O, L54N (io), E25 I/O, VREF Bank 2, L55P_Y (io), E26 I/O, L55N_Y (io), F21 I/O, L53N_YY (io), F22 I/O (io), F23 I/O, L56P_Y (io), F24 I/O, L56N_Y (io), F25 I/O, L57P_YY (io), F26 I/O, L57N_YY (io), G20 I/O (io), G21 I/O, VREF Bank 2, L58P_YY (io), G22 I/O, L58N_YY (io), G23 I/O (io), G24 I/O, L59P_YY (io), G25 I/O, L59N_YY (io), G26 I/O (io), H20 I/O, L60P (io), H21 I/O, L60N (io), H22 I/O (io), H25 I/O, VREF Bank 2, L61P_Y (io), H26 I/O, L61N_Y (io), J19 I/O, L62P_YY (io), J20 I/O, L62N_YY (io), J21 I/O, L63P_YY (io), J22 I/O, VREF Bank 2, L63N_YY (io), J23 I/O (D1) (io), J24 I/O (D2), L64P_YY (io), J25 I/O, L64N_YY (io), J26 I/O (io), K19 I/O, L65P_Y (io), K20 I/O, L65N_Y (io), K22 I/O (io), K23 I/O, L66P (io), K24 I/O, L66N (io), K25 I/O, L67P_Y (io), K26 I/O, L67N_Y (io), L19 I/O (io), L20 I/O, L68P_Y (io), L21 I/O, L68N_Y (io), L22 I/O (io), L24 I/O, L69P_Y (io), L25 I/O, L69N_Y (io), L26 I/O (io), M18 I/O, VREF Bank 2, L70P_YY (io), M19 I/O (D3), L70N_YY (io), M20 I/O, L71P_YY (io), M21 I/O, L71N_YY (io), M22 I/O (io), M23 I/O (io), M25 I/O, L72P (io), M26 I/O, L72N (io), N19 I/O (io), N20 I/O, VREF Bank 2, L73P_Y (io), N21 I/O, L73N_Y (io), N22 I/O, L74P_Y (io), N23 I/O, L74N_Y (io), N25 I/O, L75P_YY (io), N26 I/O (IRDY), L75N_YY (io)
part D pins: AA22 I/O, L95N_Y (io), AA23 I/O, L97N (io), AA24 I/O, L97P (io), AA25 I/O, VREF Bank 3, L96N_Y (io), AA26 I/O, L96P_Y (io), AB22 I/O, L99N_Y (io), AB23 I/O, L99P_Y (io), AB25 I/O, L98N_YY (io), AB26 I/O, L98P_YY (io), AC25 I/O, L100N (io), AC26 I/O, L100P (io), AD26 I/O (D7), L101P_YY (io), N18 I/O (io), N24 I/O (TRDY) (io), P18 I/O (io), P19 I/O (io), P20 I/O, L78N (io), P21 I/O, L78P (io), P22 I/O, VREF Bank 3, L77N_Y (io), P23 I/O, L77P_Y (io), P24 I/O (io), P25 I/O, L76N_YY (io), P26 I/O, L76P_YY (io), R18 I/O (io), R19 I/O (io), R20 I/O, L81N_Y (io), R21 I/O, L81P_Y (io), R22 I/O, VREF Bank 3, L80N_YY (io), R23 I/O (D4), L80P_YY (io), R25 I/O, L79N_YY (io), R26 I/O, L79P_YY (io), T19 I/O, L84N (io), T20 I/O, L84P (io), T21 I/O, L83N_Y (io), T22 I/O, L83P_Y (io), T24 I/O (io), T25 I/O, L82N_Y (io), T26 I/O, L82P_Y (io), U19 I/O, VREF Bank 3, L87N_YY (io), U20 I/O (D6), L87P_YY (io), U22 I/O (D5), L86N_YY (io), U23 I/O, L86P_YY (io), U24 I/O (io), U25 I/O, L85N_Y (io), U26 I/O, L85P_Y (io), V19 I/O, L90N (io), V20 I/O, L90P (io), V21 I/O, VREF Bank 3, L89N_Y (io), V22 I/O, L89P_Y (io), V23 I/O (io), V24 I/O, L88N_YY (io), V25 I/O, L88P_YY (io), V26 I/O (io), W20 I/O (io), W21 I/O, VREF Bank 3, L92N_YY (io), W22 I/O, L92P_YY (io), W25 I/O, L91N_YY (io), W26 I/O, L91P_YY (io), Y21 I/O (io), Y22 I/O, L95P_Y (io), Y23 I/O, L94N (io), Y24 I/O, L94P (io), Y25 I/O, L93N_Y (io), Y26 I/O, L93P_Y (io)
part E pins: AA14 I/O, L124N_Y (io), AA15 I/O, L122N_YY (io), AA16 I/O, L119N (io), AA18 I/O, L114P (io), AA19 I/O, L111N_Y (io), AA20 I/O, VREF Bank 4, L109P_YY (io), AA21 I/O, L105P_YY (io), AB14 I/O, L125P (io), AB15 I/O (io), AB16 I/O (io), AB17 I/O (io), AB18 I/O, VREF Bank 4, L114N (io), AB19 I/O (io), AB20 I/O, L109N_YY (io), AB21 I/O, L105N_YY (io), AC14 I/O, L125N (io), AC15 I/O (io), AC17 I/O, L117P_YY (io), AC18 I/O (io), AC20 I/O (io), AC21 I/O, L107P (io), AC22 I/O (io), AD14 I/O (io), AD16 I/O, L120P_YY (io), AD17 I/O, L117N_YY (io), AD18 I/O, L115P_YY (io), AD20 I/O, L110P_Y (io), AD21 I/O, L107N (io), AD23 I/O, L103N_Y (io), AE14 I/O (DLL), L126P (io), AE15 I/O, L123P_Y (io), AE16 I/O, L120N_YY (io), AE17 I/O, L118P_YY (io), AE18 I/O, L115N_YY (io), AE19 I/O, VREF Bank 4, L112P_Y (io), AE20 I/O, L110N_Y (io), AE21 I/O, L108P (io), AE22 I/O, VREF Bank 4, L106P_YY (io), AE23 I/O, L104P_YY (io), AE24 I/O, L103P_Y (io), AF15 I/O, L123N_Y (io), AF16 I/O (io), AF17 I/O, L118N_YY (io), AF18 I/O (io), AF19 I/O, L112N_Y (io), AF20 I/O (io), AF21 I/O, L108N (io), AF22 I/O, L106N_YY (io), AF23 I/O, L104N_YY (io), AF24 I/O, L102N_YY (io), AF25 I/O, L102P_YY (io), V15 I/O, VREF Bank 4, L121P_YY (io), W15 I/O, L121N_YY (io), W16 I/O (io), W17 I/O, L116P_Y (io), W18 I/O, L113P (io), Y14 I/O, VREF Bank 4, L124P_Y (io), Y15 I/O, L122P_YY (io), Y16 I/O, L119P (io), Y17 I/O, L116N_Y (io), Y18 I/O, L113N (io), Y19 I/O, L111P_Y (io), Y20 I/O (io)
part F pins: AA6 I/O, L150N (io), AA7 I/O, L147N_Y (io), AA8 I/O, L144P_YY (io), AA9 I/O, VREF Bank 5, L141N_Y (io), AA11 I/O, L134N_YY (io), AA12 I/O, L132P_YY (io), AA13 I/O, L129P_Y (io), AB6 I/O, L150P (io), AB7 I/O, L147P_Y (io), AB8 I/O (io), AB9 I/O, L141P_Y (io), AB10 I/O, L137N_YY (io), AB11 I/O, L134P_YY (io), AB12 I/O, VREF Bank 5, L131N_YY (io), AB13 I/O, VREF Bank 5, L128N_Y (io), AC5 I/O (io), AC6 I/O, L149N_YY (io), AC7 I/O, L146N_YY (io), AC9 I/O, L140N_YY (io), AC10 I/O, L137P_YY (io), AC12 I/O, L131P_YY (io), AC13 I/O, L128P_Y (io), AD6 I/O, L149P_YY (io), AD7 I/O, L146P_YY (io), AD9 I/O, L140P_YY (io), AD10 I/O (io), AD11 I/O (io), AD13 I/O (io), AE4 I/O, L152N (io), AE5 I/O, L151N (io), AE6 I/O, VREF Bank 5, L148N_YY (io), AE7 I/O, L145N_YY (io), AE8 I/O, L143N_YY (io), AE9 I/O, L139N_YY (io), AE10 I/O, L136N_Y (io), AE11 I/O, L133N (io), AE12 I/O, L130N_YY (io), AE13 I/O (DLL), L126N (io), AF4 I/O, L152P (io), AF5 I/O, L151P (io), AF6 I/O, L148P_YY (io), AF7 I/O, L145P_YY (io), AF8 I/O, L143P_YY (io), AF9 I/O, L139P_YY (io), AF10 I/O, L136P_Y (io), AF11 I/O, L133P (io), AF12 I/O, L130P_YY (io), V12 I/O (io), V13 I/O (io), V14 I/O, L127N (io), W9 I/O, L142N_Y (io), W10 I/O, VREF Bank 5, L138N_YY (io), W11 I/O, L135N_YY (io), W12 I/O (io), W13 I/O (io), W14 I/O, L127P (io), Y8 I/O, VREF Bank 5, L144N_YY (io), Y9 I/O, L142P_Y (io), Y10 I/O, L138P_YY (io), Y11 I/O, L135P_YY (io), Y12 I/O, L132N_YY (io), Y13 I/O, L129N_Y (io)
part G pins: AA1 I/O, L160P_YY (io), AA2 I/O, L160N_YY (io), AA3 I/O, L159P_Y (io), AA4 I/O, L159N_Y (io), AA5 I/O, L158P_Y (io), AB1 I/O, L157P (io), AB2 I/O, L157N (io), AB4 I/O, L155N_YY (io), AB5 I/O, VREF Bank 6, L158N_Y (io), AC1 I/O, L156P_Y (io), AC2 I/O, L156N_Y (io), AC3 I/O, L155P_YY (io), AD1 I/O, L154P (io), AD2 I/O, L154N (io), AE1 I/O, L153P_YY (io), AF2 I/O, L153N_YY (io), P3 I/O (TRDY), L178P_Y (io), P4 I/O, L178N_Y (io), P5 I/O, L177P_Y (io), P6 I/O, L177N_Y (io), P7 I/O (io), P8 I/O, L176P_Y (io), P9 I/O, VREF Bank 6, L176N_Y (io), R1 I/O, L175P (io), R2 I/O, L175N (io), R4 I/O (io), R5 I/O, L174P_YY (io), R6 I/O, L174N_YY (io), R7 I/O (io), R8 I/O, L173P_YY (io), R9 I/O, VREF Bank 6, L173N_YY (io), T1 I/O, L172P_Y (io), T2 I/O, L172N_Y (io), T3 I/O (io), T5 I/O, L171P_Y (io), T6 I/O, L171N_Y (io), T7 I/O, L170P_Y (io), T8 I/O, L170N_Y (io), U1 I/O (io), U2 I/O, L169P (io), U3 I/O, L169N (io), U4 I/O, L168P_Y (io), U5 I/O, L168N_Y (io), U7 I/O (io), U8 I/O (io), V1 I/O, L167P_YY (io), V2 I/O, L167N_YY (io), V3 I/O (io), V4 I/O, VREF Bank 6, L166P_YY (io), V5 I/O, L166N_YY (io), V6 I/O, L165P_YY (io), V7 I/O, L165N_YY (io), V8 I/O (io), W1 I/O, L164P_Y (io), W2 I/O, VREF Bank 6, L164N_Y (io), W5 I/O, L163P (io), W6 I/O, L163N (io), W7 I/O (io), Y1 I/O, L162P_YY (io), Y2 I/O, L162N_YY (io), Y3 I/O (io), Y4 I/O, L161P_YY (io), Y5 I/O, VREF Bank 6, L161N_YY (io), Y6 I/O (io), Y7 I/O (io)
part H pins: C1 I/O, L204N (io), C2 I/O, L204P (io), D1 I/O, L203N_Y (io), D2 I/O, L203P_Y (io), D3 I/O (io), E1 I/O, L202N_YY (io), E2 I/O, L202P_YY (io), E4 I/O, L201P (io), F1 I/O, L199N_Y (io), F2 I/O, L199P_Y (io), F3 I/O, L200N_Y (io), F4 I/O, VREF Bank 7, L200P_Y (io), F5 I/O, L201N (io), G1 I/O, L196N_YY (io), G2 I/O, VREF Bank 7, L196P_YY (io), G3 I/O, L197N_Y (io), G4 I/O, L197P_Y (io), G5 I/O, L198N (io), G6 I/O, L198P (io), H1 I/O, L194N (io), H2 I/O, L194P (io), H5 I/O, L195N_YY (io), H6 I/O, L195P_YY (io), H7 I/O (io), J1 I/O, L191N_YY (io), J2 I/O, VREF Bank 7, L191P_YY (io), J3 I/O, L192N_YY (io), J4 I/O, L192P_YY (io), J5 I/O (io), J6 I/O, L193N_Y (io), J7 I/O, VREF Bank 7, L193P_Y (io), J8 I/O (io), K1 I/O (io), K2 I/O, L189N_YY (io), K3 I/O, L189P_YY (io), K4 I/O (io), K5 I/O (io), K7 I/O, L190N_YY (io), K8 I/O, L190P_YY (io), L1 I/O, L186N_Y (io), L2 I/O, L186P_Y (io), L3 I/O (io), L5 I/O, L187N_Y (io), L6 I/O, L187P_Y (io), L7 I/O, L188N (io), L8 I/O, L188P (io), M1 I/O, L183N_YY (io), M2 I/O, L183P_YY (io), M4 I/O (io), M5 I/O, L184N_YY (io), M6 I/O, VREF Bank 7, L184P_YY (io), M7 I/O, L185N_Y (io), M8 I/O, L185P_Y (io), M9 I/O (io), N1 I/O (io), N2 I/O, L180N_YY (io), N3 I/O, L180P_YY (io), N4 I/O (io), N5 I/O, L181N_Y (io), N6 I/O, VREF Bank 7, L181P_Y (io), N7 I/O, L182N (io), N8 I/O, L182P (io), N9 I/O (io), P1 I/O, L179P_YY (io), P2 I/O (IRDY), L179N_YY (io)
part I pins: A13 GCK3, I (in), A14 GCK2, I (in), AF13 GCK1, I (in), AF14 GCK0, I (in)
part J pins: A2 TCK (in), A25 CCLK (io), AC24 PROGRAM (in), AD4 M2 (in), AD25 ~{INIT} (io) "I/O (I\N\I\T\), L101N_YY", AE3 M1 (in), AE26 DONE (io), AF3 M0 (in), B1 TMS (in), C23 TDO (out), C26 DIN (io) "I/O (DIN, D0), L50N_YY", D22 TDI (in)
part K pins: AB3 VCCO Bank 6 (power), AB24 VCCO Bank 3 (power), AC11 VCCO Bank 5 (power), AC16 VCCO Bank 4 (power), AD5 VCCO Bank 5 (power), AD8 VCCO Bank 5 (power), AD19 VCCO Bank 4 (power), AD22 VCCO Bank 4 (power), C5 VCCO Bank 0 (power), C8 VCCO Bank 0 (power), C19 VCCO Bank 1 (power), C22 VCCO Bank 1 (power), D11 VCCO Bank 0 (power), D16 VCCO Bank 1 (power), E3 VCCO Bank 7 (power), E24 VCCO Bank 2 (power), H3 VCCO Bank 7 (power), H8 VCCINT (power), H19 VCCINT (power), H24 VCCO Bank 2 (power), J9 VCCINT (power), J10 VCCO Bank 0 (power), J11 VCCO Bank 0 (power), J16 VCCO Bank 1 (power), J17 VCCO Bank 1 (power), J18 VCCINT (power), K9 VCCO Bank 7 (power), K10 VCCINT (power), K11 VCCINT (power), K12 VCCO Bank 0 (power), K13 VCCO Bank 0 (power), K14 VCCO Bank 1 (power), K15 VCCO Bank 1 (power), K16 VCCINT (power), K17 VCCINT (power), K18 VCCO Bank 2 (power), L4 VCCO Bank 7 (power), L9 VCCO Bank 7 (power), L10 VCCINT (power), L17 VCCINT (power), L18 VCCO Bank 2 (power), L23 VCCO Bank 2 (power), M10 VCCO Bank 7 (power), M17 VCCO Bank 2 (power), N10 VCCO Bank 7 (power), N17 VCCO Bank 2 (power), P10 VCCO Bank 6 (power), P17 VCCO Bank 3 (power), R10 VCCO Bank 6 (power), R17 VCCO Bank 3 (power), T4 VCCO Bank 6 (power), T9 VCCO Bank 6 (power), T10 VCCINT (power), T17 VCCINT (power), T18 VCCO Bank 3 (power), T23 VCCO Bank 3 (power), U9 VCCO Bank 6 (power), U10 VCCINT (power), U11 VCCINT (power), U12 VCCO Bank 5 (power), U13 VCCO Bank 5 (power), U14 VCCO Bank 4 (power), U15 VCCO Bank 4 (power), U16 VCCINT (power), U17 VCCINT (power), U18 VCCO Bank 3 (power), V9 VCCINT (power), V10 VCCO Bank 5 (power), V11 VCCO Bank 5 (power), V16 VCCO Bank 4 (power), V17 VCCO Bank 4 (power), V18 VCCINT (power), W3 VCCO Bank 6 (power), W8 VCCINT (power), W19 VCCINT (power), W24 VCCO Bank 3 (power)
part L pins: A1 GND (power), A26 GND (power), AA10 GND (power), AA17 GND (power), AC4 GND (power), AC8 GND (power), AC19 GND (power), AC23 GND (power), AD3 GND (power), AD12 GND (power), AD15 GND (power), AD24 GND (power), AE2 GND (power), AE25 GND (power), AF1 GND (power), AF26 GND (power), B2 GND (power), B25 GND (power), C3 GND (power), C12 GND (power), C15 GND (power), C24 GND (power), D4 GND (power), D8 GND (power), D19 GND (power), D23 GND (power), F10 GND (power), F17 GND (power), H4 GND (power), H23 GND (power), K6 GND (power), K21 GND (power), L11 GND (power), L12 GND (power), L13 GND (power), L14 GND (power), L15 GND (power), L16 GND (power), M3 GND (power), M11 GND (power), M12 GND (power), M13 GND (power), M14 GND (power), M15 GND (power), M16 GND (power), M24 GND (power), N11 GND (power), N12 GND (power), N13 GND (power), N14 GND (power), N15 GND (power), N16 GND (power), P11 GND (power), P12 GND (power), P13 GND (power), P14 GND (power), P15 GND (power), P16 GND (power), R3 GND (power), R11 GND (power), R12 GND (power), R13 GND (power), R14 GND (power), R15 GND (power), R16 GND (power), R24 GND (power), T11 GND (power), T12 GND (power), T13 GND (power), T14 GND (power), T15 GND (power), T16 GND (power), U6 GND (power), U21 GND (power), W4 GND (power), W23 GND (power)
part A text: BANK 0
part B text: BANK 1
part C text: BANK 2
part D text: BANK 3
part E text: BANK 4
part F text: BANK 5
part G text: BANK 6
part H text: BANK 7

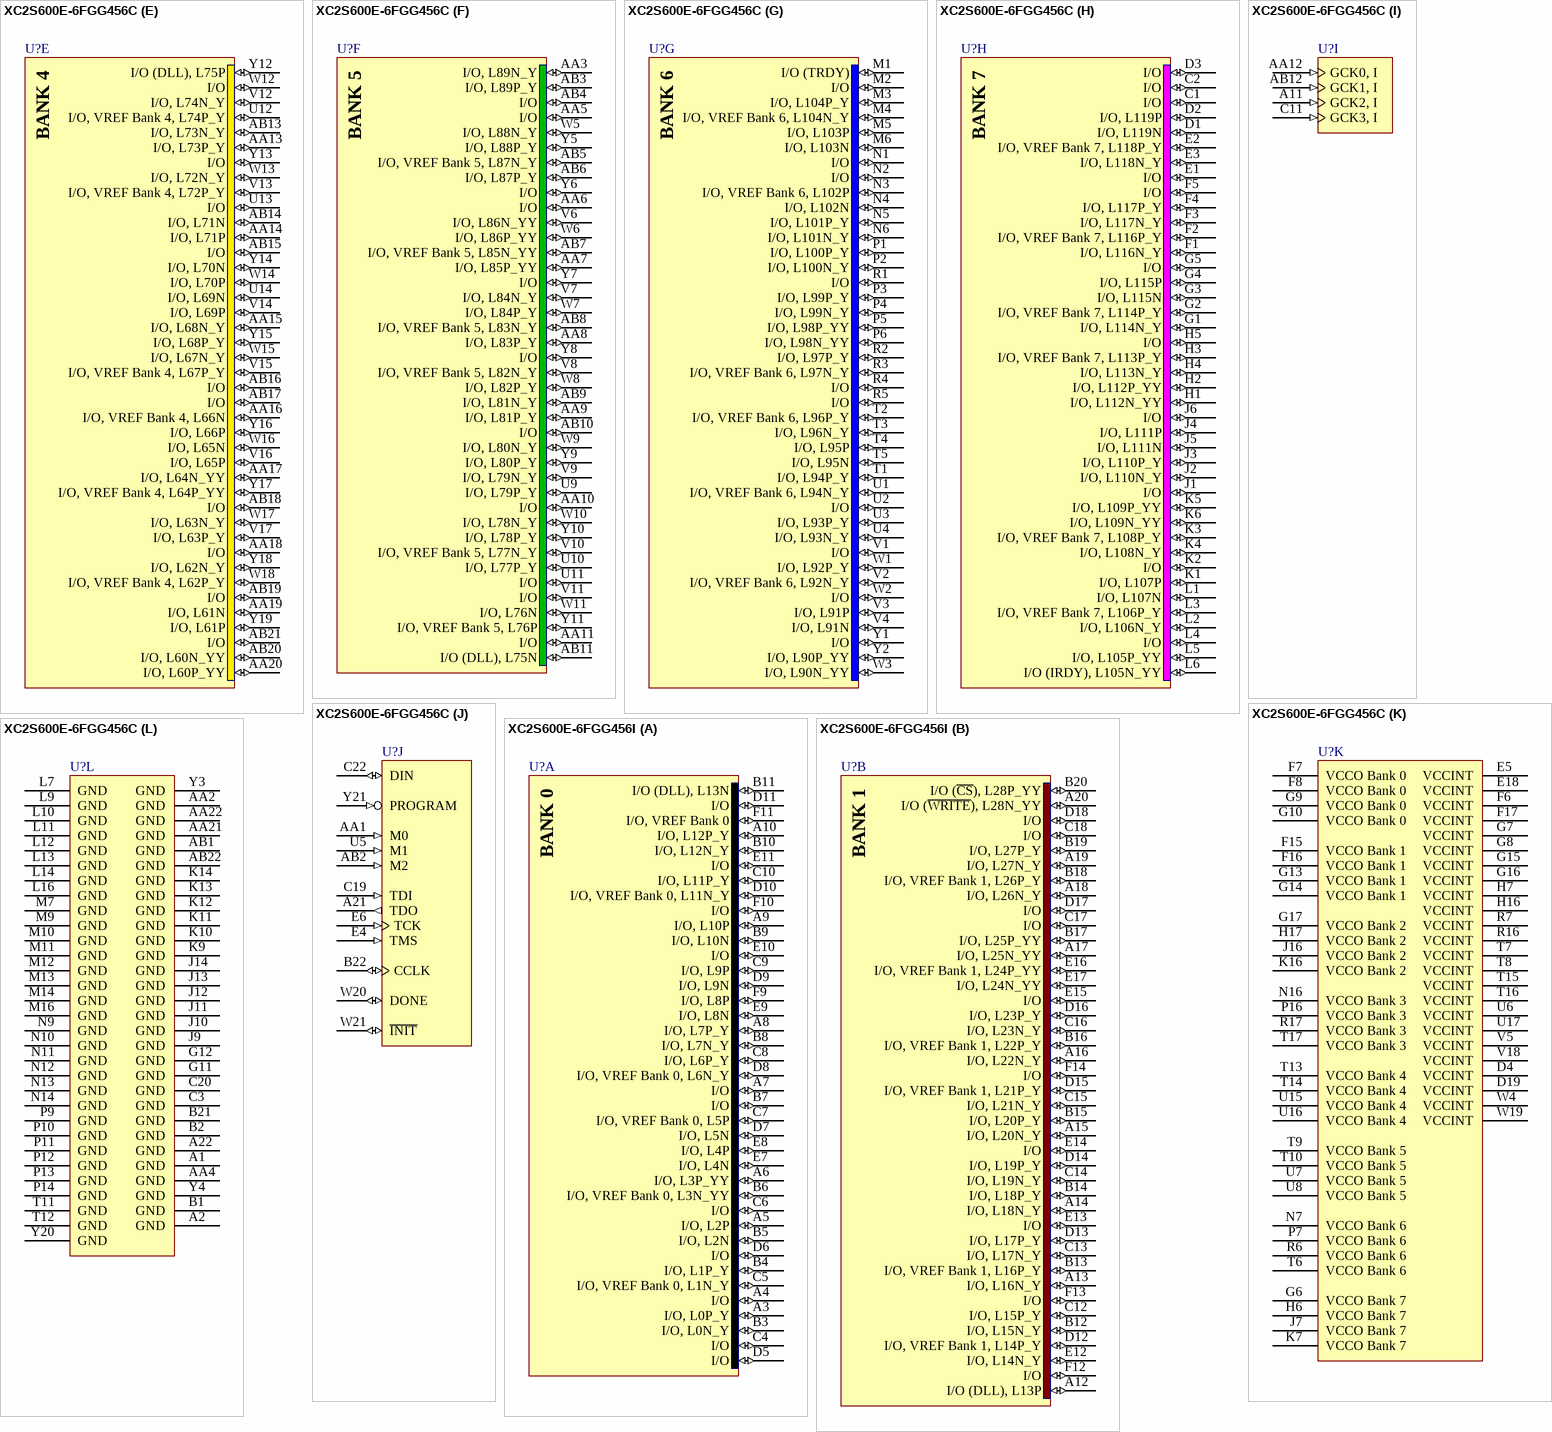
[diagram p114: symbols XC2S600E-6FGG456C to XC2S600E-6FGG456I]